# EAGLE library part E931.96 (library openPIR-temp)
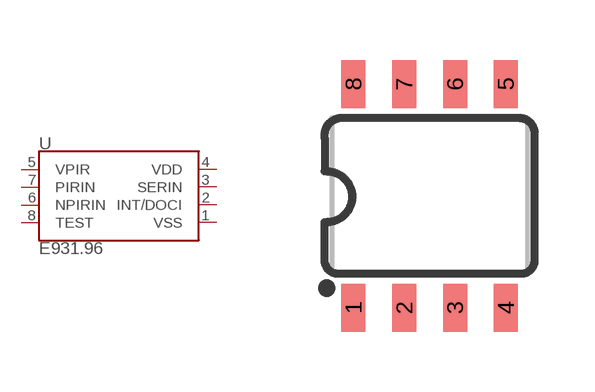
[diagram p1: symbol with the pads of SO08; footprint SO08]

Designator prefix U

## E931.96  [SO08]
1  VSS
2  INT/DOCI
3  SERIN
4  VDD
5  VPIR
6  NPIRIN
7  PIRIN
8  TEST

## Footprint SO08 (pad centres in mm)
smd 0.6 x 1.2: 1 -1.905,-2.8; 2 -0.635,-2.8; 3 0.635,-2.8; 4 1.905,-2.8; 5 1.905,2.8; 6 0.635,2.8; 7 -0.635,2.8; 8 -1.905,2.8